# Altium footprint library TE_CONN_1986712-4.PcbLib: 1 footprints
Each footprint in its own frame and in the unit in brackets; x right, y up, seen from the top. Pads: shape width x height; smd on the part's side, far side on the other; paste and mask are expansions set on the pad; w line width, h text height; cw(c..) or ccw(c..) is an arc to the next point about the centre after c.
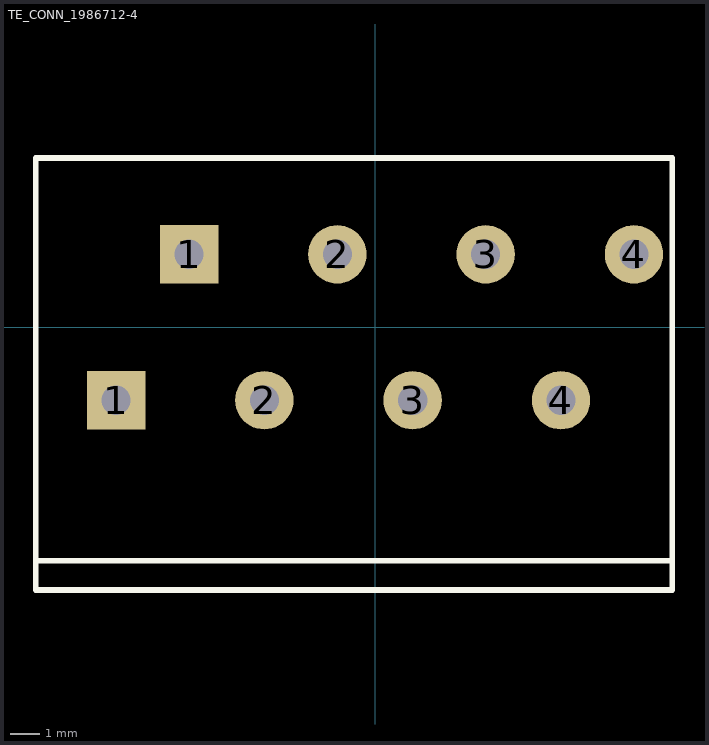
[diagram p0: the footprint, top view; thin cyan lines are the x and y axes]

## TE_CONN_1986712-4 [mm] "TE Connectivity Screwless Terminal Block"
pads (8):
  rect 2x2 hole 1 unplated: 1(-8.87,-2.5) 1(-6.37,2.5)
  round 2 hole 1 unplated: 2(-3.79,-2.5) 2(-1.29,2.5) 3(1.29,-2.5) 3(3.79,2.5) 4(6.37,-2.5) 4(8.87,2.5)
Top Overlay:
  lines w0.2: -11.62,-8 10.18,-8 ; -11.62,-9 -11.62,5.8 10.18,5.8 10.18,-9 -11.62,-9
3D body "TE_CONN_1986712-4.stp": height 14.45, standoff -3.5, extent -11.62,-9 10.2,5.8